# Altium schematic symbol library Capacitor_10uf_0805.SchLib: 1 symbol
Pins are listed as number, name and electrical type; pins without a type are passive.

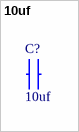
[diagram p0: symbol 10uf]

## 10uf
designator C?
Capacitor MLCC 0805 10uF 6.3V AVX 0805 Standard 10??F Ceramic Multilayer Capacitor, 6.3 V dc X5R Dielectric ??10% SMD; Manufacturer_Part_Number: 08056D106KAT2A; Allied_Number: 70002260; Supplier_Name: RS; RS Part Number: 6983548; Manufacturer_Name: AVX; Datasheet Link: http://datasheets.avx.com/cx5r.pdf; Height: 1.52mm; 3D Package: *; Other Part Number: *
footprint CAPC2012X152N